# Altium footprint library pcblib.PcbLib: 44 footprints (part 3 of 3)
Each footprint in its own frame and in the unit in brackets; x right, y up, seen from the top. Pads: shape width x height; smd on the part's side, far side on the other; paste and mask are expansions set on the pad; w line width, h text height; cw(c..) or ccw(c..) is an arc to the next point about the centre after c.
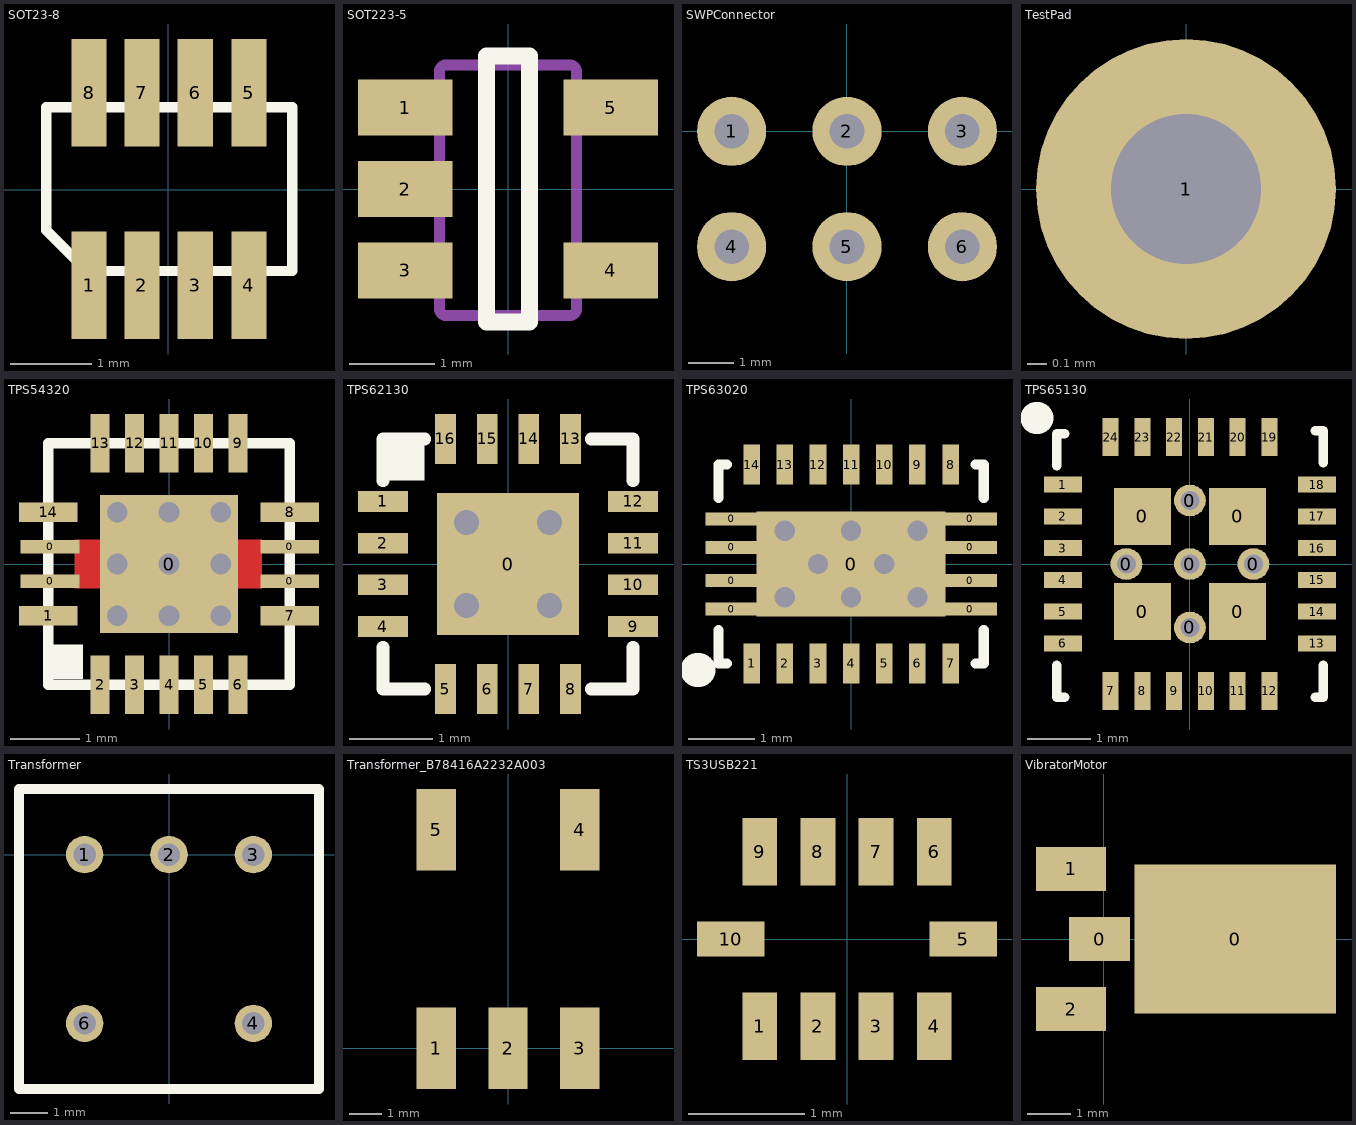
[diagram p2: the footprints below, top view; thin cyan lines are the x and y axes]

## SOT23-8 [mil] "SOT23-8"
pads (8):
  rect 17x52 smd: 1(-38.39,-46.26) 2(-12.8,-46.26) 3(13,-46.26) 4(39,-46.26) 5(39,47) 6(13,47) 7(-12.8,47) 8(-38.39,47)
Top Overlay:
  lines w5: -59.06,-19.68 -39.37,-39.37 60,-39.37 60,40 -59.06,40 -59.06,-19.68

## SOT223-5 [mm]
pads (5):
  rect 1.1x0.65 smd paste-0.102 mask+0.051: 1(-1.2,0.95) 2(-1.2,0) 3(-1.2,-0.95) 4(1.2,-0.95) 5(1.2,0.95)
Top Overlay:
  lines w0.2: -0.25,-1.55 0.25,-1.55 0.25,1.55 -0.25,1.55 -0.25,-1.55
Mechanical 1:
  lines w0.127: -0.801,1.371 cw(c-0.725,1.37) -0.725,1.446 ; -0.801,1.37 -0.801,-1.399 -0.801,-1.4 ccw(c-0.725,-1.399) -0.725,-1.475 ; -0.801,1.37 -0.801,1.371 ; -0.725,-1.475 -0.725,-1.475 ; -0.725,-1.475 0.723,-1.475 0.724,-1.475 ccw(c0.723,-1.399) 0.799,-1.4 0.799,-1.399 0.799,1.37 ; -0.725,1.446 0.723,1.446 0.724,1.446 cw(c0.723,1.37) 0.799,1.371 ; -0.725,1.446 -0.725,1.446 ; 0.799,1.37 0.799,1.371 ; -1.423,-1.167 -1.199,-1.167 -1.105,-1.167 -1.088,-1.167 -0.835,-1.167 -0.801,-1.167 -0.801,-0.767 -0.835,-0.767 -1.088,-0.767 -1.105,-0.767 -1.199,-0.767 -1.423,-0.767 -1.423,-1.167 ; -1.423,-0.215 -1.199,-0.215 -1.105,-0.215 -1.088,-0.215 -0.835,-0.215 -0.801,-0.215 -0.801,0.186 -0.835,0.186 -1.088,0.186 -1.105,0.186 -1.199,0.186 -1.423,0.186 -1.423,-0.215 ; -1.423,0.738 -1.199,0.738 -1.105,0.738 -1.088,0.738 -0.835,0.738 -0.801,0.738 -0.801,1.138 -0.835,1.138 -1.088,1.138 -1.105,1.138 -1.199,1.138 -1.423,1.138 -1.423,0.738 ; 0.799,-1.167 0.799,-0.767 0.834,-0.767 1.087,-0.767 1.103,-0.767 1.198,-0.767 1.422,-0.767 1.422,-1.167 1.198,-1.167 1.103,-1.167 1.087,-1.167 0.834,-1.167 0.799,-1.167 ; 0.799,0.738 0.799,1.138 0.834,1.138 1.087,1.138 1.103,1.138 1.198,1.138 1.422,1.138 1.422,0.738 1.198,0.738 1.103,0.738 1.087,0.738 0.834,0.738 0.799,0.738

## SWPConnector [mil]
pads (6):
  round 60 hole 30: 1(-100,0) 2(0,0) 3(100,0) 4(-100,-100) 5(0,-100) 6(100,-100)

## TestPad [mil]
pads (1):
  round 60 hole 30: 1(0,0)

## TPS54320 [mm]
pads (19):
  rect 0.85x0.2 smd: 0(-1.725,-0.25) 0(-1.725,0.25) 0(1.75,-0.25) 0(1.75,0.25)
  rect 2x2 smd: 0(0,0)
  rect 0.85x0.28 smd: 1(-1.75,-0.75) 7(1.75,-0.75) 8(1.75,0.75) 14(-1.75,0.75)
  rect 0.28x0.85 smd: 2(-1,-1.75) 3(-0.5,-1.75) 4(0,-1.75) 5(0.5,-1.75) 6(1,-1.75) 9(1,1.75) 10(0.5,1.75) 11(0,1.75) 12(-0.5,1.75) 13(-1,1.75)
via 0.75,-0.75 diameter 0.5 hole 0.3
via 0,-0.75 diameter 0.5 hole 0.3
via -0.75,-0.75 diameter 0.5 hole 0.3
via -0.75,0 diameter 0.5 hole 0.3
via -0.75,0.75 diameter 0.5 hole 0.3
via 0,0.75 diameter 0.5 hole 0.3
via 0.75,0.75 diameter 0.5 hole 0.3
via 0.75,0 diameter 0.5 hole 0.3
via 0,0 diameter 0.5 hole 0.3
Top Layer:
  rectangle: -1.372,-0.356 -0.787,0.356
  rectangle: 0.787,-0.356 1.346,0.356
Top Overlay:
  rectangle: -1.745,-1.668 -1.245,-1.168
  lines w0.152: -1.75,-1.75 -1.75,1.75 1.75,1.75 1.75,-1.75 -1.75,-1.75
Top Solder:
  rectangle: -1.372,-0.457 -1.016,0.457
  rectangle: 0.813,-0.457 1.245,0.457

## TPS62130 [mm]
pads (17):
  rect 1.7x1.7 smd: 0(0,0)
  rect 0.6x0.25 smd: 1(-1.5,0.75) 2(-1.5,0.25) 3(-1.5,-0.25) 4(-1.5,-0.75) 9(1.5,-0.75) 10(1.5,-0.25) 11(1.5,0.25) 12(1.5,0.75)
  rect 0.25x0.6 smd: 5(-0.75,-1.5) 6(-0.25,-1.5) 7(0.25,-1.5) 8(0.75,-1.5) 13(0.75,1.5) 14(0.25,1.5) 15(-0.25,1.5) 16(-0.75,1.5)
via -0.5,-0.5 diameter 0.5 hole 0.3
via -0.5,0.5 diameter 0.5 hole 0.3
via 0.5,0.5 diameter 0.5 hole 0.3
via 0.5,-0.5 diameter 0.5 hole 0.3
Top Overlay:
  rectangle: -1.5,1 -1,1.5
  lines w0.152: -1.5,-1 -1.5,-1.5 -1,-1.5 ; -1.5,1 -1.5,1.5 -1,1.5 ; 1,-1.5 1.5,-1.5 1.5,-1 ; 1,1.5 1.5,1.5 1.5,1
3D body: height 0.6, standoff 0, extent -1.5,-1.5 1.5,1.5

## TPS63020 [mm]
pads (23):
  rect 0.8x0.2 smd: 0(-1.8,-0.68) 0(-1.8,-0.25) 0(-1.8,0.25) 0(-1.8,0.68) 0(1.8,-0.68) 0(1.8,-0.25) 0(1.8,0.25) 0(1.8,0.68)
  rect 2.85x1.58 smd: 0(0,0)
  rect 0.25x0.6 smd: 1(-1.5,-1.5) 2(-1,-1.5) 3(-0.5,-1.5) 4(0,-1.5) 5(0.5,-1.5) 6(1,-1.5) 7(1.5,-1.5) 8(1.5,1.5) 9(1,1.5) 10(0.5,1.5) 11(0,1.5) 12(-0.5,1.5) 13(-1,1.5) 14(-1.5,1.5)
via -1,-0.5 diameter 0.508 hole 0.305
via -1,0.5 diameter 0.508 hole 0.305
via 1,-0.5 diameter 0.508 hole 0.305
via 1,0.5 diameter 0.508 hole 0.305
via 0.5,0 diameter 0.508 hole 0.305
via -0.5,0 diameter 0.508 hole 0.305
via 0,0.5 diameter 0.508 hole 0.305
via 0,-0.5 diameter 0.508 hole 0.305
Top Overlay:
  lines w0.152: -2,-1 -2,-1.5 -1.875,-1.5 ; -2,1 -2,1.5 -1.875,1.5 ; 1.875,-1.5 2,-1.5 2,-1 ; 1.875,1.5 2,1.5 2,1
  lines w0.508: -2.325,-1.6 -2.3,-1.6
3D body: height 1, standoff 0, extent -2,-1.5 2,1.5

## TPS65130 [mm]
pads (33):
  round 0.5 hole 0.3: 0(-1,0) 0(0,-1) 0(0,0) 0(0,1) 0(1,0)
  rect 0.9x0.9 smd: 0(-0.75,-0.75) 0(-0.75,0.75) 0(0.75,-0.75) 0(0.75,0.75)
  rect 0.6x0.25 smd: 1(-2,1.25) 2(-2,0.75) 3(-2,0.25) 4(-2,-0.25) 5(-2,-0.75) 6(-2,-1.25) 13(2,-1.25) 14(2,-0.75) 15(2,-0.25) 16(2,0.25) 17(2,0.75) 18(2,1.25)
  rect 0.25x0.6 smd: 7(-1.25,-2) 8(-0.75,-2) 9(-0.25,-2) 10(0.25,-2) 11(0.75,-2) 12(1.25,-2) 19(1.25,2) 20(0.75,2) 21(0.25,2) 22(-0.25,2) 23(-0.75,2) 24(-1.25,2)
Top Overlay:
  lines w0.152: -2.1,-1.6 -2.1,-2.1 -1.975,-2.1 ; -2.1,1.55 -2.1,2.05 -1.975,2.05 ; 1.975,-2.1 2.1,-2.1 2.1,-1.6 ; 1.975,2.1 2.1,2.1 2.1,1.6
  lines w0.508: -2.425,2.3 -2.4,2.3
3D body: height 1, standoff 0, extent -2,-2 2,2

## Transformer [mm]
pads (5):
  round 1 hole 0.6: 1(-2.25,0) 2(0,0) 3(2.25,0) 4(2.25,-4.5) 6(-2.25,-4.5)
Top Overlay:
  lines w0.254: -4,-6.25 -4,1.75 4,1.75 4,-6.25 -4,-6.25

## Transformer_B78416A2232A003 [mm]
pads (5):
  rect 1.2x2.5 smd: 1(-2.2,0) 2(0,0) 3(2.2,0) 4(2.2,6.7) 5(-2.2,6.7)

## TS3USB221 [mm]
pads (10):
  rect 0.3x0.58 smd: 1(-0.75,-0.75) 2(-0.25,-0.75) 3(0.25,-0.75) 4(0.75,-0.75) 6(0.75,0.75) 7(0.25,0.75) 8(-0.25,0.75) 9(-0.75,0.75)
  rect 0.58x0.3 smd: 5(1,0) 10(-1,0)
3D body: height 0.5, standoff 0, extent -1,-0.75 1,0.75

## VibratorMotor [mm]
pads (4):
  rect 1.4x1 smd: 0(-0.1,0)
  rect 4.6x3.4 smd: 0(3,0)
  rect 1.6x1 smd: 1(-0.75,1.6) 2(-0.75,-1.6)
3D body: height 3.6, standoff 0, extent 5.5,-1.8 10.1,1.8
3D body: height 3.6, standoff 0, extent -1.5,-2.2 5.5,2.2